# EAGLE library part KSZ8863MLL (library Micrel_By_element14_Batch_1)
Integrated 3-port 10/100 Managed switch
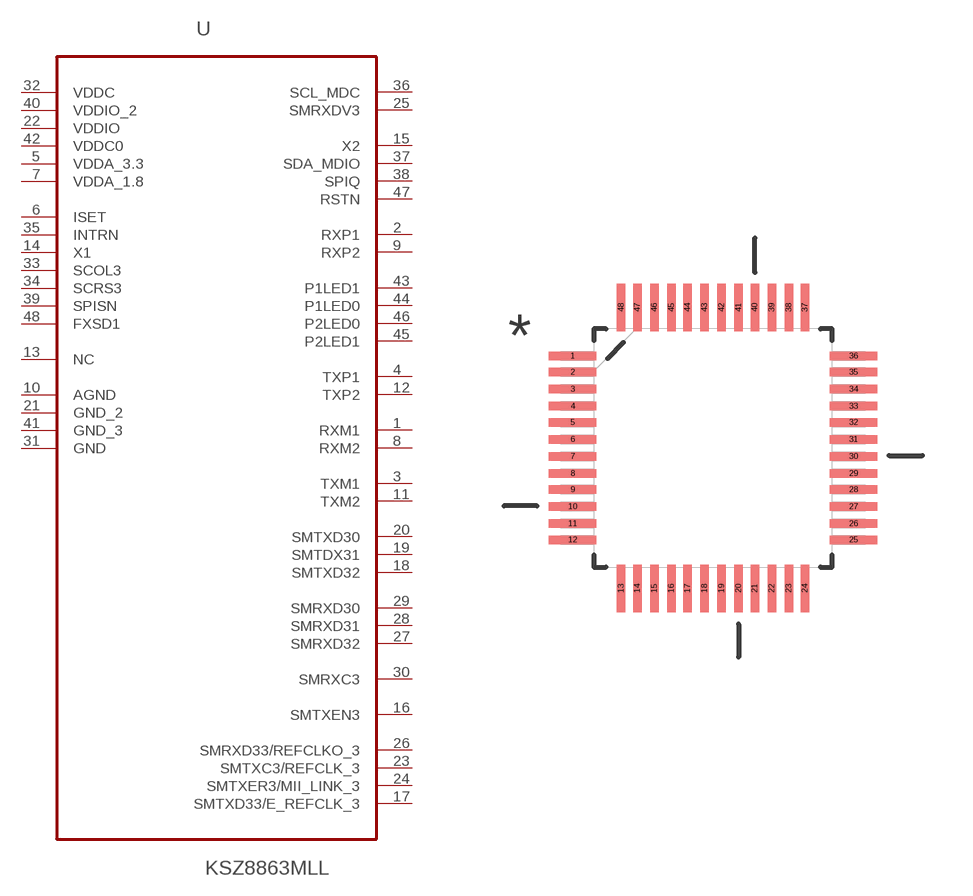
[diagram p0: symbol with the pads of QFP50P900X900X160-48N; footprint QFP50P900X900X160-48N]

Designator prefix U

## KSZ8863MLL (MPN: KSZ8863MLL; OC_FARNELL: 1864784; OC_NEWARK: 27T5794; PACKAGE: TQFP-48; SUPPLIER: MICREL SEMICONDUCTOR)  [QFP50P900X900X160-48N]
1  RXM1
2  RXP1
3  TXM1
4  TXP1
5  VDDA_3.3  pwr
6  ISET  in
7  VDDA_1.8  pwr
8  RXM2
9  RXP2
10  AGND  pas
11  TXM2
12  TXP2
13  NC  nc
14  X1  in
15  X2  out
16  SMTXEN3
17  SMTXD33/E_REFCLK_3
18  SMTXD32
19  SMTDX31
20  SMTXD30
21  GND_2  pas
22  VDDIO  pwr
23  SMTXC3/REFCLK_3
24  SMTXER3/MII_LINK_3
25  SMRXDV3
26  SMRXD33/REFCLKO_3
27  SMRXD32
28  SMRXD31
29  SMRXD30
30  SMRXC3
31  GND  pas
32  VDDC  pwr
33  SCOL3
34  SCRS3  out
35  INTRN  in
36  SCL_MDC
37  SDA_MDIO
38  SPIQ  out
39  SPISN  in
40  VDDIO_2  pwr
41  GND_3  pas
42  VDDC0  pwr
43  P1LED1
44  P1LED0
45  P2LED1
46  P2LED0
47  RSTN
48  FXSD1  pas

## Footprint QFP50P900X900X160-48N (pad centres in mm)
smd 1.422 x 0.254: 1 -4.191,2.743; 2 -4.191,2.261; 3 -4.191,1.753; 4 -4.191,1.245; 5 -4.191,0.762; 6 -4.191,0.254; 7 -4.191,-0.254; 8 -4.191,-0.762; 9 -4.191,-1.245; 10 -4.191,-1.753; 11 -4.191,-2.261; 12 -4.191,-2.743; 25 4.191,-2.743; 26 4.191,-2.261; 27 4.191,-1.753; 28 4.191,-1.245; 29 4.191,-0.762; 30 4.191,-0.254; 31 4.191,0.254; 32 4.191,0.762; 33 4.191,1.245; 34 4.191,1.753; 35 4.191,2.261; 36 4.191,2.743
smd 0.254 x 1.422: 13 -2.743,-4.191; 14 -2.261,-4.191; 15 -1.753,-4.191; 16 -1.245,-4.191; 17 -0.762,-4.191; 18 -0.254,-4.191; 19 0.254,-4.191; 20 0.762,-4.191; 21 1.245,-4.191; 22 1.753,-4.191; 23 2.261,-4.191; 24 2.743,-4.191; 37 2.743,4.191; 38 2.261,4.191; 39 1.753,4.191; 40 1.245,4.191; 41 0.762,4.191; 42 0.254,4.191; 43 -0.254,4.191; 44 -0.762,4.191; 45 -1.245,4.191; 46 -1.753,4.191; 47 -2.261,4.191; 48 -2.743,4.191